# EAGLE library part TTP223N-HA6 (library Deegou_IC)
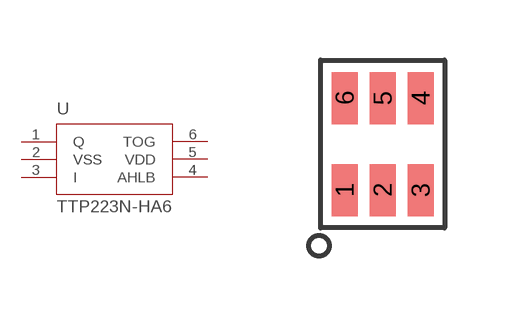
[diagram p53: symbol with the pads of SOT23-6L; footprint SOT23-6L]

Designator prefix U

## TTP223N-HA6  [SOT23-6L]
1  Q
2  VSS
3  I
4  AHLB
5  VDD
6  TOG

## Footprint SOT23-6L (pad centres in mm)
smd 0.65 x 1.3: 1 0.03,-1.12; 2 0.98,-1.12; 3 1.93,-1.12; 4 1.93,1.18; 5 0.98,1.18; 6 0.03,1.18